# EAGLE library part ADA4522-2ARZ-RL (library my)
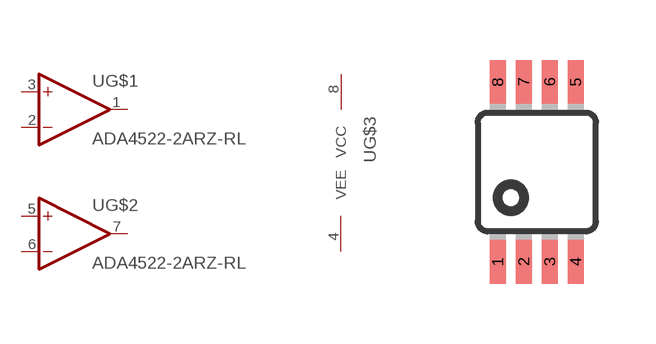
[diagram p2: symbol with the pads of MSOP8; footprint MSOP8]

Designator prefix -; gates G$1=OPAMP G$2=OPAMP G$3=VCC_VEE

## ADA4522-2ARZ-RL (DIGIKEY: 505-ADA4522-2ARZ-RLCT-ND)  [MSOP8]
1  G$1:OUT  out
2  G$1:-IN  in
3  G$1:+IN  in
4  G$3:VEE
5  G$2:+IN  in
6  G$2:-IN  in
7  G$2:OUT  out
8  G$3:VCC

## Footprint MSOP8 (pad centres in mm)
8M, 8-Lead, 0.118" Wide, Miniature Small Outline Package MSOP 8M-Package doc1097.pdf
smd 0.4 x 1.1: 1 -0.975,-2.25; 2 -0.325,-2.25; 3 0.325,-2.25; 4 0.975,-2.25; 5 0.975,2.25; 6 0.325,2.25; 7 -0.325,2.25; 8 -0.975,2.25